# EAGLE library part TERA-RADIO-RFM23BP (library tera-boards)
Tera Radio Board Adapter for HopeRF RFM23BP Trägerboard
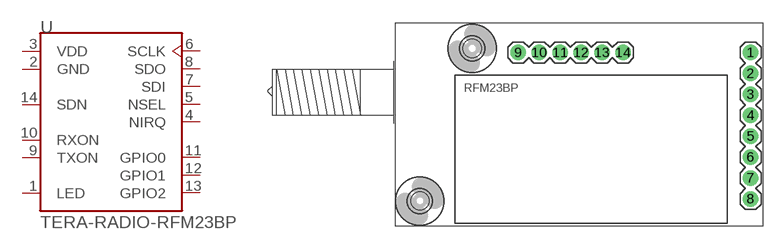
[diagram p4: symbol with the pads of TERA-RADIO-RFM23BP; footprint TERA-RADIO-RFM23BP]

Designator prefix -

## TERA-RADIO-RFM23BP  [TERA-RADIO-RFM23BP]
1  LED
2  GND
3  VDD
4  NIRQ
5  NSEL
6  SCLK
7  SDI
8  SDO
9  TXON
10  RXON
11  GPIO0
12  GPIO1
13  GPIO2
14  SDN

## Footprint TERA-RADIO-RFM23BP (pad centres in mm)
drill 1 pad 1.88: 1 43.18,21.082; 2 43.18,18.542; 3 43.18,16.002; 4 43.18,13.462; 5 43.18,10.922; 6 43.18,8.382; 7 43.18,5.842; 8 43.18,3.302; 9 14.986,21.082; 10 17.526,21.082; 11 20.066,21.082; 12 22.606,21.082; 13 25.146,21.082; 14 27.686,21.082
hole 2.2 at 9.398,21.59
hole 2.2 at 3.048,3.048